# EAGLE library part SWITCH_DPDT (library CrickitCopy)
Switch - DPDT A DPDT Switch acts like an SPDT switch, but has a pair of switches instead of just one. Vertical - 0.3A @ 6V SMT - Digikey: JS202011SCQN
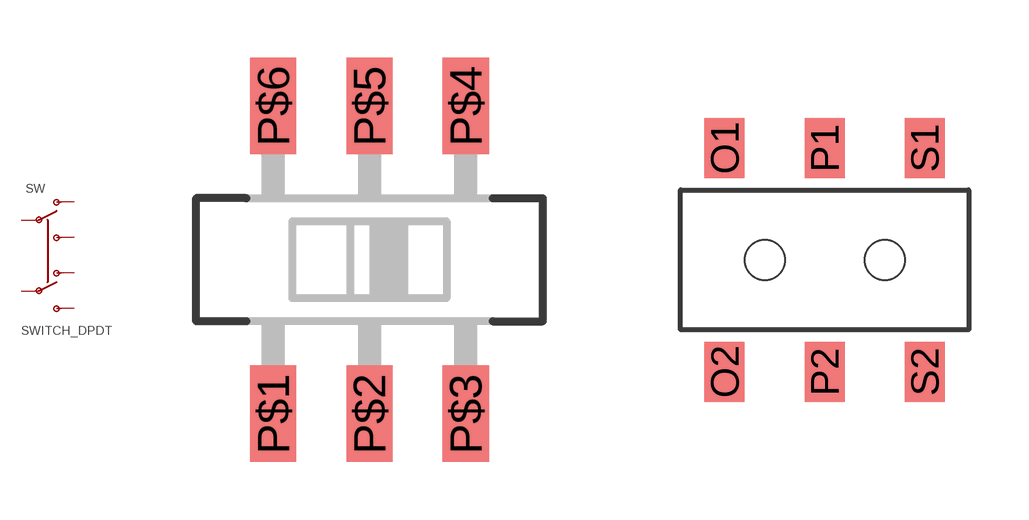
[diagram p8: symbol with the pads of DPDT_SMT_JS202011SCQN; footprints DPDT_SMT_JS202011SCQN, EG1390]

Designator prefix SW

## SWITCH_DPDT  [DPDT_SMT_JS202011SCQN]
P$1  O1  pas
P$2  P1  pas
P$3  S1  pas
P$4  S2  pas
P$5  P2  pas
P$6  O2  pas

## SWITCH_DPDTEG1390  [EG1390]
O1  O1  pas
O2  O2  pas
P1  P1  pas
P2  P2  pas
S1  S1  pas
S2  S2  pas

## Footprint DPDT_SMT_JS202011SCQN (pad centres in mm)
smd 1.2 x 2.5: P$1 -2.5,-4; P$2 0,-4; P$3 2.5,-4; P$4 2.5,4; P$5 0,4; P$6 -2.5,4

## Footprint EG1390 (pad centres in mm)
smd 1 x 1.5: O1 -2.5,2.8; O2 -2.5,-2.8; P1 0,2.8; P2 0,-2.8; S1 2.5,2.8; S2 2.5,-2.8
hole 1 at 1.5,0
hole 1 at -1.5,0